# EAGLE library part FV1 (library mb3_integrated circuits)
Spin Semi FV-1 FV-1: http://smallbear-electronics.mybigcommerce.com/ic-spin-semi-fv-1/
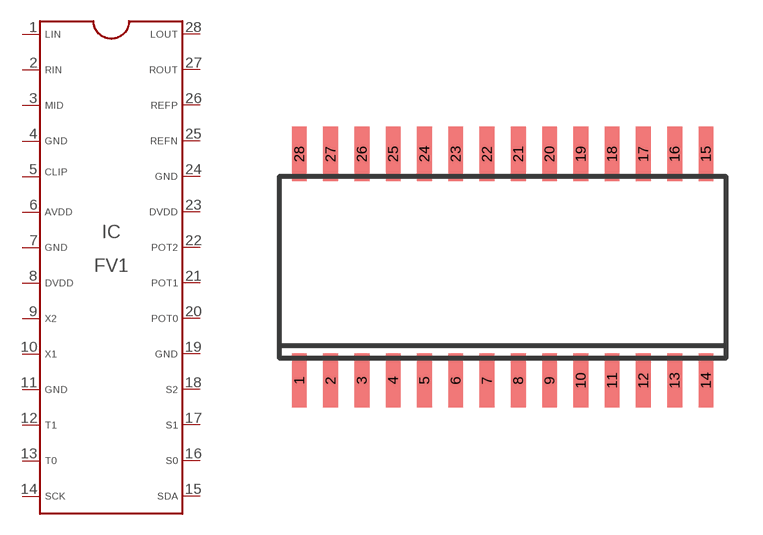
[diagram p15: symbol with the pads of SO1C28; footprint SO1C28]

Designator prefix IC

## FV1  [SO1C28]
1  P$1
2  P$2
3  P$3
4  P$4
5  P$5
6  P$6
7  P$7
8  P$8
9  P$9
10  P$10
11  P$11
12  P$12
13  P$13
14  P$14
15  P$15
16  P$16
17  P$17
18  P$18
19  P$19
20  P$20
21  P$21
22  P$22
23  P$23
24  P$24
25  P$25
26  P$26
27  P$27
28  P$28

## Footprint SO1C28 (pad centres in mm)
smd 0.6 x 2.2: 1 -8.24,-4.79; 2 -6.97,-4.79; 3 -5.7,-4.79; 4 -4.43,-4.79; 5 -3.16,-4.79; 6 -1.89,-4.79; 7 -0.62,-4.79; 8 0.65,-4.79; 9 1.92,-4.79; 10 3.19,-4.79; 11 4.46,-4.79; 12 5.73,-4.79; 13 7,-4.79; 14 8.27,-4.79; 15 8.27,4.41; 16 7,4.41; 17 5.73,4.41; 18 4.46,4.41; 19 3.19,4.41; 20 1.92,4.41; 21 0.65,4.41; 22 -0.62,4.41; 23 -1.89,4.41; 24 -3.16,4.41; 25 -4.43,4.41; 26 -5.7,4.41; 27 -6.97,4.41; 28 -8.24,4.41